# EAGLE library part 61301025721 (library Board-to-Board (rev18a))
WR-PHD 2.54mm Dual Socket Header Bottom Entry, 10 Pins =>Code : Con_BTB_SHD_2.54_2_61301025721 <http://katalog.we-online.de/media/images/eican/Con_BTB_SHD_2.54_2_6130xx25721_pf2.jpg> Details see: http://katalog.we-online.de/en/em/613_0xx_257_21 Created 2014-05-30, Karrer Zheng 2014 (C) Würth Elektronik
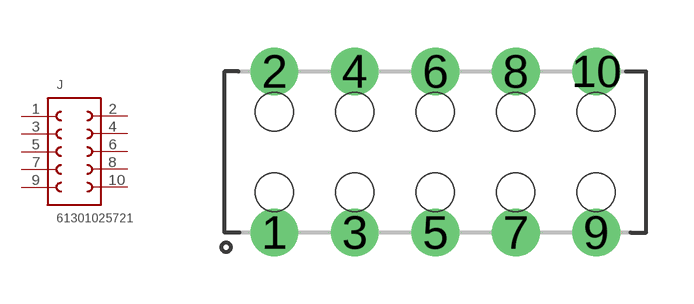
[diagram p154: symbol with the pads of 61301025721; footprint 61301025721]

Designator prefix J

## 61301025721  [61301025721]
1  1  pas
2  10  pas
3  2  pas
4  9  pas
5  3  pas
6  8  pas
7  4  pas
8  7  pas
9  5  pas
10  6  pas

## Footprint 61301025721 (pad centres in mm)
WR-PHD 2.54mm Dual Socket Header Bottom Entry, 10 Pins
drill 1 pad 1.4: 1 -5.08,-2.54; 2 -5.08,2.54; 3 -2.54,-2.54; 4 -2.54,2.54; 5 0,-2.54; 6 0,2.54; 7 2.54,-2.54; 8 2.54,2.54; 9 5.08,-2.54; 10 5.08,2.54
hole 1.2 at -5.08,1.27
hole 1.2 at -2.54,1.27
hole 1.2 at -2.54,-1.27
hole 1.2 at -5.08,-1.27
hole 1.2 at 0,-1.27
hole 1.2 at 0,1.27
hole 1.2 at 2.54,1.27
hole 1.2 at 2.54,-1.27
hole 1.2 at 5.08,1.27
hole 1.2 at 5.08,-1.27